# EAGLE library part 4072 (library TABOR K1)
2-nasobne 4-vstupove hradlo OR
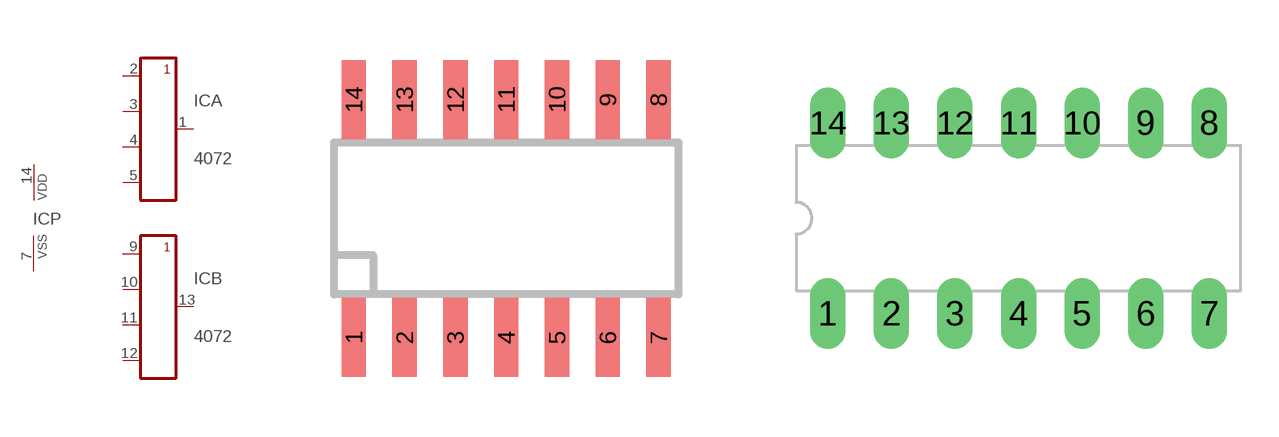
[diagram p39: symbol with the pads of SO14; footprints SO14, DIL14]

Designator prefix IC; gates A=OR_4 B=OR_4 P=PWR-VDD-VSS

## 4072SMD-SO14  [SO14]
1  A:O  out
2  A:I1  in
3  A:I2  in
4  A:I3  in
5  A:I4  in
7  P:VSS  pwr
9  B:I1  in
10  B:I2  in
11  B:I3  in
12  B:I4  in
13  B:O  out
14  P:VDD  pwr

## 4072N  [DIL14]
Pads as for SO14

## Footprint SO14 (pad centres in mm)
Puzdro SO14 : cinova ploska = 0,86 mm
smd 0.61 x 1.981: 1 -3.81,-2.972; 2 -2.54,-2.972; 3 -1.27,-2.972; 4 0,-2.972; 5 1.27,-2.972; 6 2.54,-2.972; 7 3.81,-2.972; 8 3.81,2.972; 9 2.54,2.972; 10 1.27,2.972; 11 0,2.972; 12 -1.27,2.972; 13 -2.54,2.972; 14 -3.81,2.972

## Footprint DIL14 (pad centres in mm)
Púzdro DIL14 : diera s pokovenim = 0,6 mm, vrtanie = 0,8mm
drill 0.813 pad 1.422 long: 1 -7.62,-3.81; 2 -5.08,-3.81; 3 -2.54,-3.81; 4 0,-3.81; 5 2.54,-3.81; 6 5.08,-3.81; 7 7.62,-3.81; 8 7.62,3.81; 9 5.08,3.81; 10 2.54,3.81; 11 0,3.81; 12 -2.54,3.81; 13 -5.08,3.81; 14 -7.62,3.81